# Altium footprint library AMPHENOL_GSB1C411111DS1HR.PcbLib: 1 footprints
Each footprint in its own frame and in the unit in brackets; x right, y up, seen from the top. Pads: shape width x height; smd on the part's side, far side on the other; paste and mask are expansions set on the pad; w line width, h text height; cw(c..) or ccw(c..) is an arc to the next point about the centre after c.
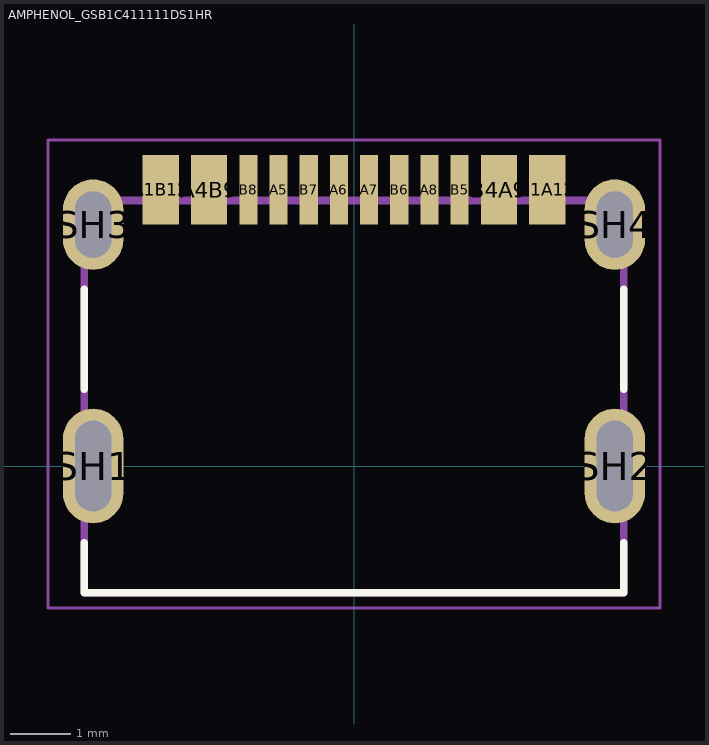
[diagram p0: the footprint, top view; thin cyan lines are the x and y axes]

## AMPHENOL_GSB1C411111DS1HR [mm]
height 3.16
pads (16):
  rect 0.6x1.15 smd: A1B12(-3.2,4.575) A4B9(-2.4,4.575) B1A12(3.2,4.575) B4A9(2.4,4.575)
  rect 0.3x1.15 smd: A5(-1.25,4.575) A6(-0.25,4.575) A7(0.25,4.575) A8(1.25,4.575) B5(1.75,4.575) B6(0.75,4.575) B7(-0.75,4.575) B8(-1.75,4.575)
  oval 1x1.9 hole 0.6 slot 1.5 at 90 deg: SH1(-4.32,0) SH2(4.32,0)
  oval 1x1.5 hole 0.6 slot 1.1 at 90 deg: SH3(-4.32,4) SH4(4.32,4)
Top Overlay:
  lines w0.127: -4.47,-1.27 -4.47,-2.1 4.47,-2.1 4.47,-1.27 ; -4.47,1.27 -4.47,2.93 ; 4.47,1.27 4.47,2.93
Mechanical 13:
  lines w0.127: -4.47,-2.1 4.47,-2.1 4.47,4.4 -4.47,4.4 -4.47,-2.1
Mechanical 15:
  lines w0.05: -5.07,-2.35 -5.07,5.4 5.07,5.4 5.07,-2.35 -5.07,-2.35
3D body "step_temp.STEP": height 1.58, standoff -2.49, extent -4.47,3.958 4.47,10.708